# Altium footprint library CMM3729AT42316TR.PcbLib: 1 footprints
Each footprint in its own frame and in the unit in brackets; x right, y up, seen from the top. Pads: shape width x height; smd on the part's side, far side on the other; paste and mask are expansions set on the pad; w line width, h text height; cw(c..) or ccw(c..) is an arc to the next point about the centre after c.
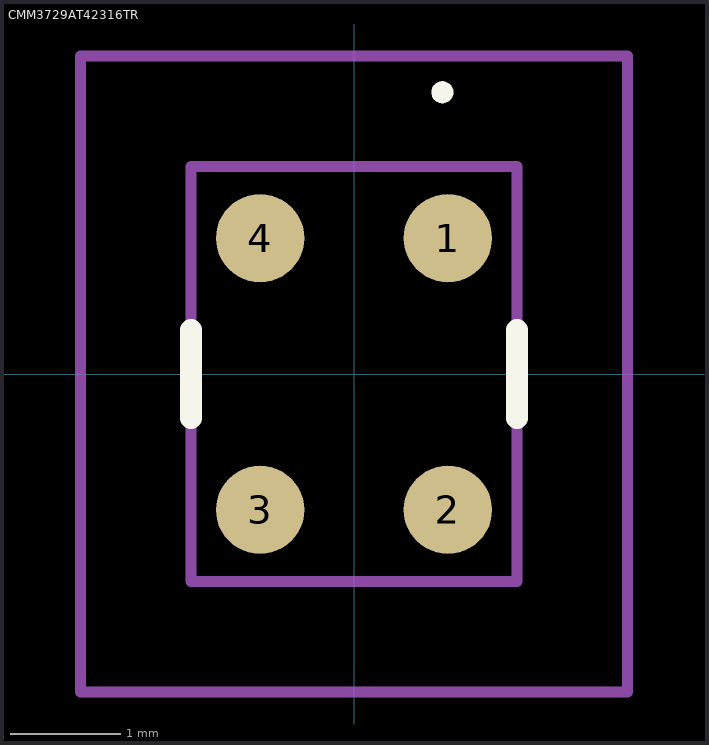
[diagram p0: the footprint, top view; thin cyan lines are the x and y axes]

## CMM3729AT42316TR [mm]
pads (4):
  round 0.8 smd: 1(0.85,1.23) 2(0.85,-1.23) 3(-0.85,-1.23) 4(-0.85,1.23)
Top Overlay:
  lines w0.1: 0.8,2.5 cw(c0.8,2.55) 0.8,2.6 ; 0.8,2.5 0.8,2.5 ; 0.8,2.5 ccw(c0.8,2.55) 0.8,2.6 ; 0.8,2.6 0.8,2.6
  lines w0.2: -1.475,-0.4 -1.475,0.4 ; 1.475,-0.4 1.475,0.4
Mechanical 15:
  lines w0.1: -1.475,-1.88 1.475,-1.88 1.475,1.88 -1.475,1.88 -1.475,-1.88
Mechanical 20:
  lines w0.1: -2.475,-2.88 2.475,-2.88 2.475,2.88 -2.475,2.88 -2.475,-2.88